# Altium schematic symbol library newwind.SchLib: 1 symbol
Pins are listed as number, name and electrical type; pins without a type are passive.

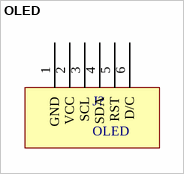
[diagram p0: symbol OLED]

## OLED
designator J?
footprint OLED (Footprint not found)
pins: 1 GND, 2 VCC, 3 SCL, 4 SDA, 5 RST, 6 D/C